# Altium schematic symbol library A3909GLNTR-T.SchLib: 1 symbol
Pins are listed as number, name and electrical type; pins without a type are passive.

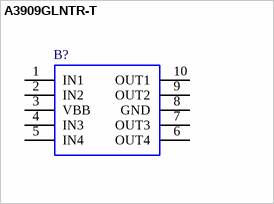
[diagram p0: symbol A3909GLNTR-T]

## A3909GLNTR-T
designator B?
Low Voltage Dual Full-Bridge Motor Driver; Manufacturer_Name: Allegro Microsystems; Geometry.Height: 1.75mm; Manufacturer_Part_Number: A3909GLNTR-T; Mouser Part Number: 250-A3909GLNTR-T; Mouser Price/Stock: https://www.mouser.co.uk/ProductDetail/Allegro-MicroSystems/A3909GLNTR-T?qs=pUKx8fyJudC%252BMGD7t6mLWQ%3D%3D; Arrow Part Number: A3909GLNTR-T; Arrow Price/Stock: https://www.arrow.com/en/products/a3909glntr-t/allegro-microsystems?region=nac; Mouser Testing Part Number: *; Mouser Testing Price/Stock: *; Datasheet Link: http://www.allegromicro.com/~/media/files/datasheets/a3909-datasheet.pdf
footprint SOP100P600X175-10N
pins: 1 IN1, 2 IN2, 3 VBB, 4 IN3, 5 IN4, 6 OUT4, 7 OUT3, 8 GND, 9 OUT2, 10 OUT1